# EAGLE library part RKJXV1224005 (library Eagle CMR)
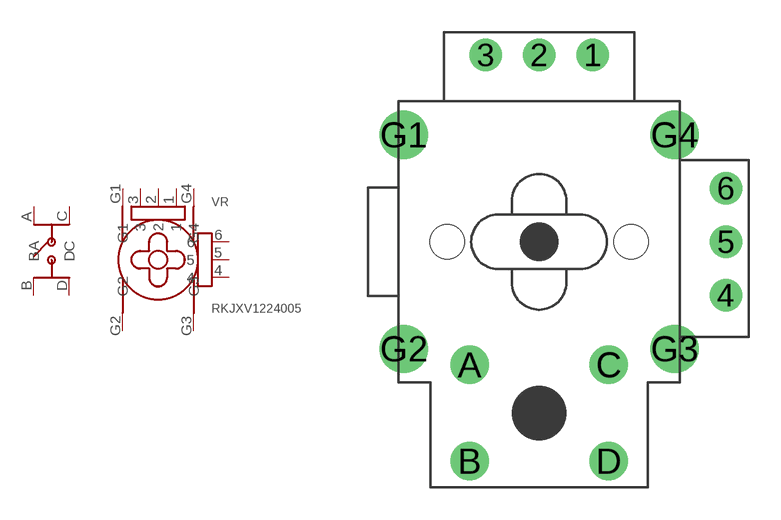
[diagram p15: symbol with the pads of RKJXV1224005; footprint RKJXV1224005]

Designator prefix VR

## RKJXV1224005  [RKJXV1224005]
1  1
2  2
3  3
4  4
5  5
6  6
A  A
B  B
C  C
D  D
G1  G1
G2  G2
G3  G3
G4  G4

## Footprint RKJXV1224005 (pad centres in mm)
drill 1: 1 2.5,8.73; 2 0,8.73; 3 -2.5,8.73; 4 8.73,-2.5; 5 8.73,0; 6 8.73,2.5
drill 1.2: A -3.25,-5.75; B -3.25,-10.25; C 3.25,-5.75; D 3.25,-10.25
drill 1.5: G1 -6.325,5; G2 -6.325,-5; G3 6.325,-5; G4 6.325,5
hole 1.6 at -4.3,0
hole 1.6 at 4.3,0